# Altium schematic symbol library R-CRCW0603680RJNEA.Schlib: 1 symbol
Pins are listed as number, name and electrical type; pins without a type are passive.

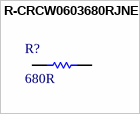
[diagram p0: symbol R-CRCW0603680RJNEA]

## R-CRCW0603680RJNEA
designator R?, comment 680R
Thick Film Resistors - SMD 1/10watt 680ohms 5%
pins: 1, 2